# Altium schematic symbol library ESP32-WROVER-IB.SchLib: 1 symbol
Pins are listed as number, name and electrical type; pins without a type are passive.

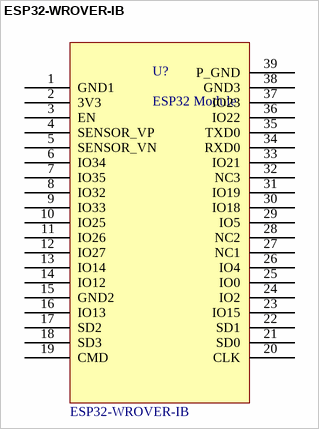
[diagram p0: symbol ESP32-WROVER-IB]

## ESP32-WROVER-IB
designator U?, comment ESP32 Module
Multiprotocol Modules SMD Module M213DH3264UH3Q0, ESP32-D0WD, 64Mbits PSRAM, 4 MB SPI flash, IPEX Antenna connector; Manufacturer: Espressif Systems; Value: ESP32-WROVER-IB
footprint ESP32-WROVER-IB (Multiprotocol Modules SMD Module M213DH3264UH3Q0, ESP32-D0WD, 64Mbits PSRAM, 4 MB SPI flash, IPEX Antenna connector)
pins: 1 GND1, 2 3V3, 3 EN, 4 SENSOR_VP, 5 SENSOR_VN, 6 IO34, 7 IO35, 8 IO32, 9 IO33, 10 IO25, 11 IO26, 12 IO27, 13 IO14, 14 IO12, 15 GND2, 16 IO13, 17 SD2, 18 SD3, 19 CMD, 20 CLK, 21 SD0, 22 SD1, 23 IO15, 24 IO2, 25 IO0, 26 IO4, 27 NC1, 28 NC2, 29 IO5, 30 IO18, 31 IO19, 32 NC3, 33 IO21, 34 RXD0, 35 TXD0, 36 IO22, 37 IO23, 38 GND3, 39 P_GND